# Altium footprint library Cap electrolitic radial 10x20-5.PcbLib: 1 footprints
Each footprint in its own frame and in the unit in brackets; x right, y up, seen from the top. Pads: shape width x height; smd on the part's side, far side on the other; paste and mask are expansions set on the pad; w line width, h text height; cw(c..) or ccw(c..) is an arc to the next point about the centre after c.
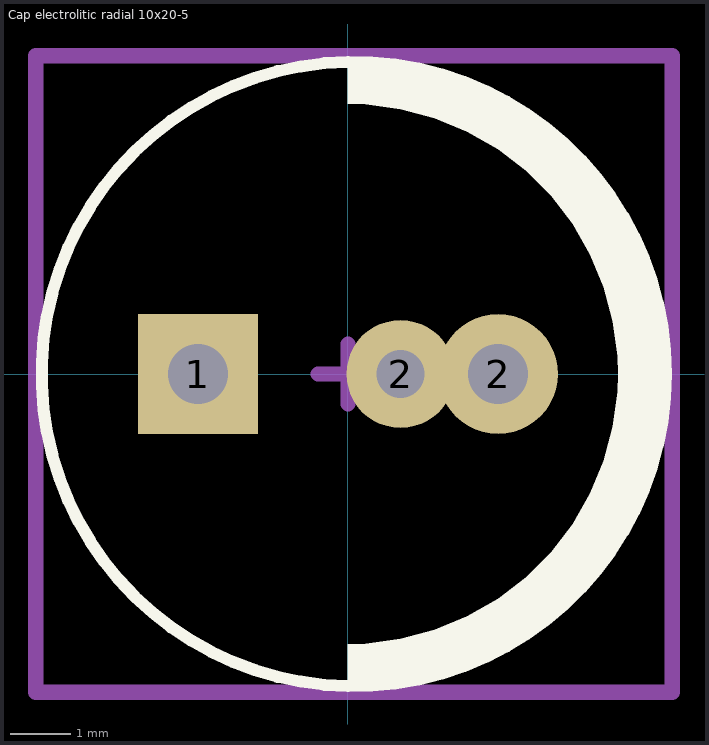
[diagram p0: the footprint, top view; thin cyan lines are the x and y axes]

## Cap electrolitic radial 10x20-5 [mm] "Cap electrolitic radial 10x20-5-Design:Abbas Basereh"
height 20
pads (3):
  rect 2x2 hole 1: 1(-2.5,0)
  round 1.8 hole 0.8: 2(0.875,0)
  round 2 hole 1: 2(2.5,0)
Top Overlay:
  circle w0.2: c0.096,0 r5.2
  region: 0,5.2 0.096,5.2 0.437,5.2 1.113,5.111 1.771,4.935 2.401,4.674 2.991,4.333 3.532,3.918 4.014,3.436 4.429,2.895 4.77,2.305 5.031,1.675 5.207,1.017 5.296,0.341 5.296,0 5.296,-0.341 5.207,-1.017 5.031,-1.675 4.77,-2.305 4.429,-2.895 4.014,-3.436 3.532,-3.918 2.991,-4.333 2.401,-4.674 1.771,-4.935 1.113,-5.111 0.437,-5.2 0.096,-5.2 0,-5.2 0,-4.5 0.294,-4.49 0.878,-4.414 1.446,-4.261 1.99,-4.036 2.5,-3.742 2.967,-3.383 3.383,-2.967 3.742,-2.5 4.036,-1.99 4.261,-1.446 4.414,-0.878 4.49,-0.294 4.5,0 4.49,0.294 4.414,0.878 4.261,1.446 4.036,1.99 3.742,2.5 3.383,2.967 2.967,3.383 2.5,3.742 1.99,4.036 1.446,4.261 0.878,4.414 0.294,4.49 0,4.5
Mechanical 15:
  lines w0.254: -0.5,0 0.4,0 ; 0,-0.5 0,0.5 ; -5.2,-5.3 -5.2,5.3 5.4,5.3 5.4,-5.3 -5.2,-5.3
3D body "User Library-Cap-EL(10x20-5).STEP": height 20, standoff -3.3, extent -5,-5 5.002,5